# EAGLE library part SD_CARD_BREAKOUT (library sd_card_breakout)
SD Card Reader Breakout
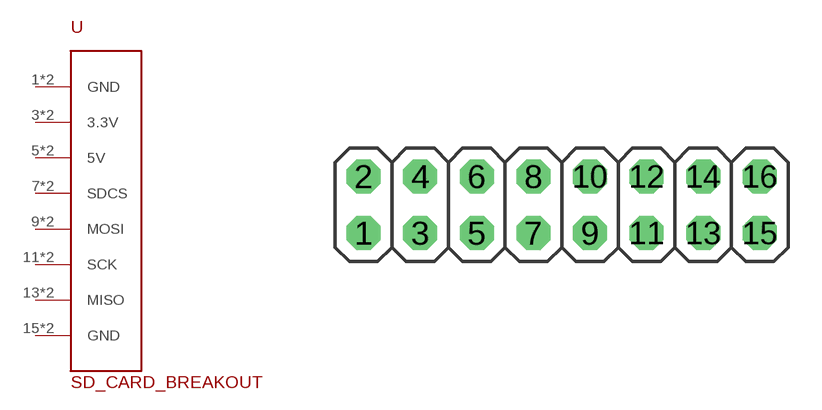
[diagram p0: symbol with the pads of SD_CARD_BREAKOUT; footprint SD_CARD_BREAKOUT]

Designator prefix -

## SD_CARD_BREAKOUT  [SD_CARD_BREAKOUT]
1  GND
2  GND
3  3.3V
4  3.3V
5  5V
6  5V
7  SDCS
8  SDCS
9  MOSI
10  MOSI
11  SCK
12  SCK
13  MISO
14  MISO
15  GND
16  GND

## Footprint SD_CARD_BREAKOUT (pad centres in mm)
drill 1.016 octagon: 1 -8.89,-1.27; 2 -8.89,1.27; 3 -6.35,-1.27; 4 -6.35,1.27; 5 -3.81,-1.27; 6 -3.81,1.27; 7 -1.27,-1.27; 8 -1.27,1.27; 9 1.27,-1.27; 10 1.27,1.27; 11 3.81,-1.27; 12 3.81,1.27; 13 6.35,-1.27; 14 6.35,1.27; 15 8.89,-1.27; 16 8.89,1.27